# Altium footprint library PcbLib1.PcbLib: 1 footprints
Each footprint in its own frame and in the unit in brackets; x right, y up, seen from the top. Pads: shape width x height; smd on the part's side, far side on the other; paste and mask are expansions set on the pad; w line width, h text height; cw(c..) or ccw(c..) is an arc to the next point about the centre after c.
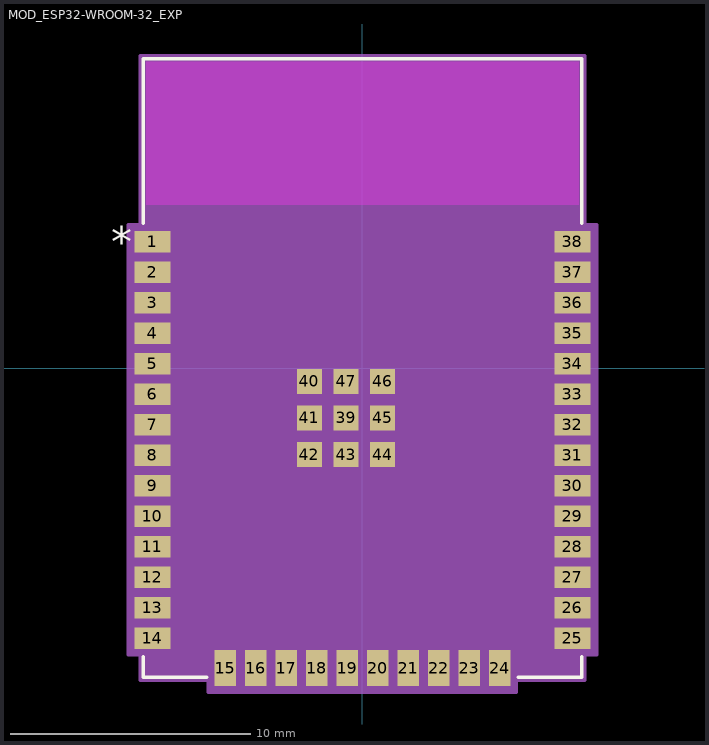
[diagram p0: the footprint, top view; thin cyan lines are the x and y axes]

## MOD_ESP32-WROOM-32_EXP [mil]
pads (47):
  rect 59x35 smd paste+0 mask+0: 1(-344.49,207.09) 2(-344.49,157.09) 3(-344.49,107.09) 4(-344.49,57.09) 5(-344.49,7.09) 6(-344.49,-42.91) 7(-344.49,-92.91) 8(-344.49,-142.91) 9(-344.49,-192.91) 10(-344.49,-242.91) 11(-344.49,-292.91) 12(-344.49,-342.91) 13(-344.49,-392.91) 14(-344.49,-442.91) 25(344.49,-442.91) 26(344.49,-392.91) 27(344.49,-342.91) 28(344.49,-292.91) 29(344.49,-242.91) 30(344.49,-192.91) 31(344.49,-142.91) 32(344.49,-92.91) 33(344.49,-42.91) 34(344.49,7.09) 35(344.49,57.09) 36(344.49,107.09) 37(344.49,157.09) 38(344.49,207.09)
  rect 35x59 smd paste+0 mask+0: 15(-225,-492.13) 16(-175,-492.13) 17(-125,-492.13) 18(-75,-492.13) 19(-25,-492.13) 20(25,-492.13) 21(75,-492.13) 22(125,-492.13) 23(175,-492.13) 24(225,-492.13)
  rect 41x41 smd paste+0 mask+0: 39(-26.77,-81.89) 40(-86.81,-21.85) 41(-86.81,-81.89) 42(-86.81,-141.93) 43(-26.77,-141.93) 44(33.27,-141.93) 45(33.27,-81.89) 46(33.27,-21.85) 47(-26.77,-21.85)
Top Overlay:
  lines w6: -359.5,-473.51 -359.5,-507 -255.6,-507 ; -359.5,237.69 -359.5,507 359.5,507 359.5,237.69 ; 255.6,-507 359.5,-507 359.5,-473.51
  text "*" at -411.49,182.09 h50
Keep-Out Layer:
  region: 354.5,502 -354.5,502 -354.5,268 354.5,268
Mechanical 13:
  lines w1: -354.5,-502 354.5,-502 354.5,502 -354.5,502 -354.5,-502
  text "*" at -302.49,182.09 h50
Mechanical 15:
  region: 383.99,234.59 364.5,234.59 364.5,512 -364.5,512 -364.5,234.59 -383.99,234.59 -383.99,-470.41 -364.5,-470.41 -364.5,-512 -252.5,-512 -252.5,-531.63 252.5,-531.63 252.5,-512 364.5,-512 364.5,-470.41 383.99,-470.41
  lines w6: -383.99,-470.41 -383.99,234.59 -364.5,234.59 -364.5,512 364.5,512 364.5,234.59 383.99,234.59 383.99,-470.41 364.5,-470.41 364.5,-512 252.5,-512 252.5,-531.63 -252.5,-531.63 -252.5,-512 -364.5,-512 -364.5,-470.41 -383.99,-470.41
3D body "User Library-ESP32-WROOM-32E-1.step": height 124.02, standoff -0.71, extent -355.95,-502.05 354.13,502.6